# Altium schematic symbol library 104031-0811.SchLib: 1 symbol
Pins are listed as number, name and electrical type; pins without a type are passive.

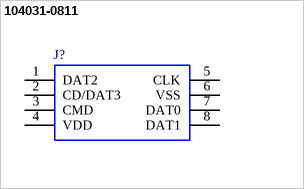
[diagram p0: symbol 104031-0811]

## 104031-0811
designator J?
microSD 1.10mm SMT push-pull memory card microSD 1.10mm SMT push-pull memory card; Manufacturer_Name: Molex; Mouser Part Number: 538-104031-0811; Mouser Price/Stock: https://www.mouser.co.uk/ProductDetail/Molex/104031-0811?qs=udsGRKD4nA3Tvy7wqky%252BuA%3D%3D; Manufacturer_Part_Number: 104031-0811; Datasheet Link: http://www.molex.com/webdocs/datasheets/pdf/en-us/1040310811_MEMORY_CARD_SOCKET.pdf
footprint 1040310811
pins: 1 DAT2, 2 CD/DAT3, 3 CMD, 4 VDD, 5 CLK, 6 VSS, 7 DAT0, 8 DAT1